# Altium schematic symbol library MB0042A.01.A.1.SchLib: 1 symbol
Pins are listed as number, name and electrical type; pins without a type are passive.

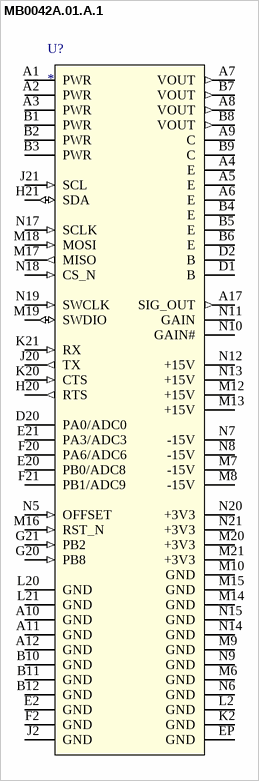
[diagram p0: symbol MB0042A.01.A.1]

## MB0042A.01.A.1
designator U?
pins: A1 PWR (power), A2 PWR (power), A3 PWR (power), A4 E, A5 E, A6 E, A7 VOUT (out), A8 VOUT (out), A9 C, A10 GND (power), A11 GND (power), A12 GND (power), A17 SIG_OUT (out), B1 PWR (power), B2 PWR (power), B3 PWR (power), B4 E, B5 E, B6 E, B7 VOUT (out), B8 VOUT (out), B9 C, B10 GND (power), B11 GND (power), B12 GND (power), D1 B, D2 B, D20 PA0/ADC0, E2 GND (power), E20 PB0/ADC8, E21 PA3/ADC3, EP GND (power), F2 GND (power), F20 PA6/ADC6, F21 PB1/ADC9, G20 PB8 (in), G21 PB2 (in), H20 RTS (out), H21 SDA (io), J2 GND (power), J20 TX (out), J21 SCL (in), K2 GND (power), K20 CTS (in), K21 RX (in), L2 GND (power), L20 GND (power), L21 GND (power), M6 GND (power), M7 -15V (power), M8 -15V (power), M9 GND (power), M10 GND (power), M12 +15V (power), M13 +15V (power), M14 GND (power), M15 GND (power), M16 RST_N (in), M17 MISO (out), M18 MOSI (in), M19 SWDIO (io), M20 +3V3 (power), M21 +3V3 (power), N5 OFFSET (in), N6 GND (power), N7 -15V (power), N8 -15V (power), N9 GND (power), N10 GAIN#, N11 GAIN, N12 +15V (power), N13 +15V (power), N14 GND (power), N15 GND (power), N17 SCLK (in), N18 CS_N (in), N19 SWCLK (in), N20 +3V3 (power), N21 +3V3 (power)